# EAGLE library part CTS-219-3MST (library graftel-internal-ic)
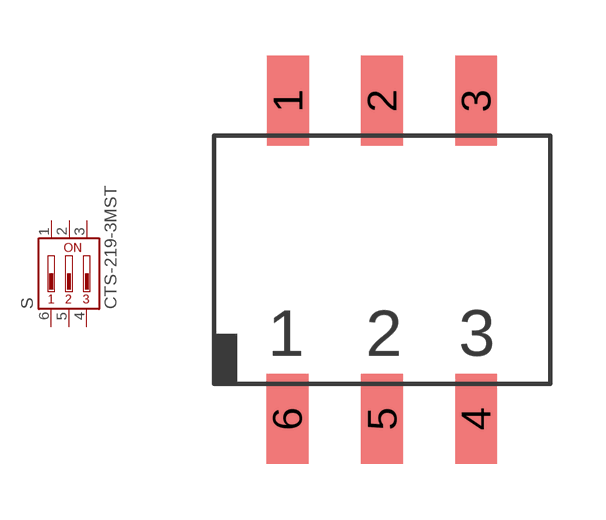
[diagram p10: symbol with the pads of 3-POS-DIP-SMD; footprint 3-POS-DIP-SMD]

Designator prefix S

## CTS-219-3MST  [3-POS-DIP-SMD]
1  1
2  2
3  3
4  4
5  5
6  6

## Footprint 3-POS-DIP-SMD (pad centres in mm)
smd 1.13 x 2.44: 1 -2.54,4.3; 2 0,4.3; 3 2.54,4.3; 4 2.54,-4.3; 5 0,-4.3; 6 -2.56,-4.3